# Altium schematic symbol library DMN26D0UFB4-7.Schlib: 1 symbol
Pins are listed as number, name and electrical type; pins without a type are passive.

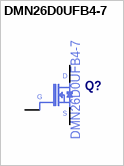
[diagram p0: symbol DMN26D0UFB4-7]

## DMN26D0UFB4-7
designator Q?
DMN3404L-7; Manufacturer Part Number: DMN26D0UFB4-7
pins: 1 G, 2 S, 3 D